# Altium footprint library nrf51x22_qfax.PcbLib: 7 footprints
Each footprint in its own frame and in the unit in brackets; x right, y up, seen from the top. Pads: shape width x height; smd on the part's side, far side on the other; paste and mask are expansions set on the pad; w line width, h text height; cw(c..) or ccw(c..) is an arc to the next point about the centre after c.
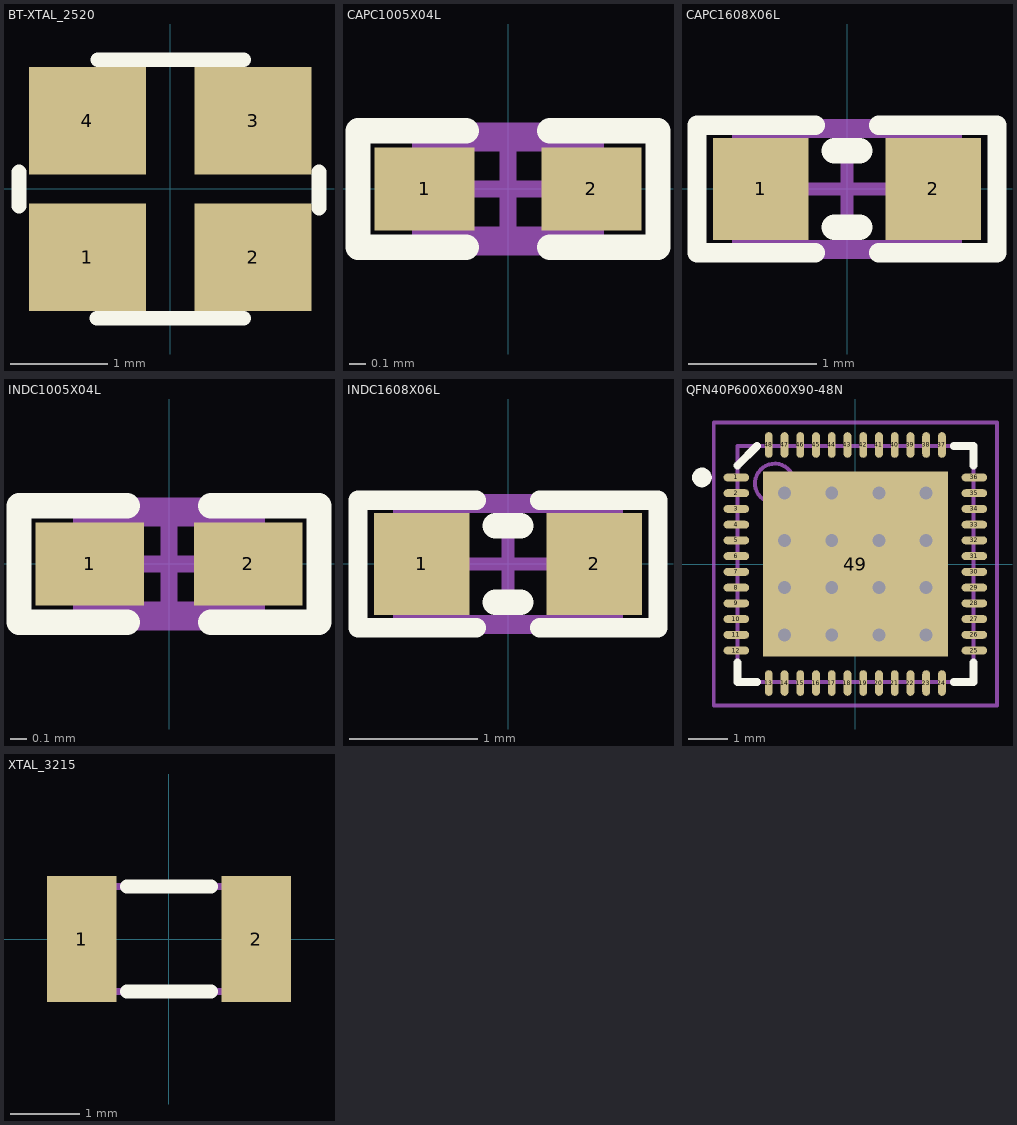
[diagram p0: the footprints below, top view; thin cyan lines are the x and y axes]

## BT-XTAL_2520 [mm]
pads (4):
  rect 1.2x1.1 smd: 1(-0.85,-0.7) 2(0.85,-0.7) 3(0.85,0.7) 4(-0.85,0.7)
Top Overlay:
  lines w0.152: -1.55,-0.175 -1.55,0.175 ; -0.75,-1.325 0.75,-1.325 ; -0.74,1.325 0.75,1.325 ; 1.525,-0.195 1.525,0.175
3D body: height 0.56, standoff 0.15, extent -1.05,-0.8 1.05,0.8
3D body: height 0.56, standoff 0, extent -1.25,-1 1.27,1

## CAPC1005X04L [mm]
pads (2):
  rect 0.6x0.5 smd: 1(-0.5,0) 2(0.5,0)
Top Overlay:
  lines w0.152: -0.25,-0.35 -0.9,-0.35 -0.9,0.35 -0.25,0.35 ; 0.25,-0.35 0.9,-0.35 0.9,0.35 0.25,0.35
Mechanical 13:
  lines w0.1: -0.525,-0.275 0.525,-0.275 0.525,0.275 -0.525,0.275 -0.525,-0.275
Mechanical 15:
  lines w0.1: -0.275,0 0.275,0 ; 0,-0.275 0,0.275 ; -0.9,-0.35 -0.9,0.35 0.9,0.35 0.9,-0.35 -0.9,-0.35
3D body: height 0.5, standoff -0.01, extent -0.508,-0.254 0.508,0.254

## CAPC1608X06L [mm]
pads (2):
  rect 0.75x0.8 smd: 1(-0.675,0) 2(0.675,0)
Top Overlay:
  lines w0.152: -0.25,-0.5 -1.175,-0.5 -1.175,0.5 -0.25,0.5 ; 0.25,-0.5 1.175,-0.5 1.175,0.5 0.25,0.5
  lines w0.2: -0.1,-0.3 0.1,-0.3 ; -0.1,0.3 0.1,0.3
Mechanical 13:
  lines w0.1: -0.85,-0.45 -0.85,0.45 0.85,0.45 0.85,-0.45 -0.85,-0.45
Mechanical 15:
  lines w0.1: -0.45,0 0.45,0 ; 0,-0.45 0,0.45 ; -1.175,-0.5 1.175,-0.5 1.175,0.5 -1.175,0.5 -1.175,-0.5
3D body: height 0.8, standoff 0, extent -0.8,-0.43 0.8,0.43

## INDC1005X04L [mm]
pads (2):
  rect 0.65x0.5 smd: 1(-0.475,0) 2(0.475,0)
Top Overlay:
  lines w0.152: -0.25,-0.35 -0.9,-0.35 -0.9,0.35 -0.25,0.35 ; 0.25,-0.35 0.9,-0.35 0.9,0.35 0.25,0.35
Mechanical 13:
  lines w0.1: -0.525,-0.275 0.525,-0.275 0.525,0.275 -0.525,0.275 -0.525,-0.275
Mechanical 15:
  lines w0.1: -0.275,0 0.275,0 ; 0,-0.275 0,0.275 ; -0.9,-0.35 0.9,-0.35 0.9,0.35 -0.9,0.35 -0.9,-0.35
3D body: height 0.5, standoff 0, extent -0.5,-0.3 0.5,0.3

## INDC1608X06L [mm]
pads (2):
  rect 0.75x0.8 smd: 1(-0.675,0) 2(0.675,0)
Top Overlay:
  lines w0.152: -0.25,-0.5 -1.175,-0.5 -1.175,0.5 -0.25,0.5 ; 0.25,-0.5 1.175,-0.5 1.175,0.5 0.25,0.5
  lines w0.2: -0.1,-0.3 0.1,-0.3 ; -0.1,0.3 0.1,0.3
Mechanical 13:
  lines w0.1: -0.85,-0.45 0.85,-0.45 0.85,0.45 -0.85,0.45 -0.85,-0.45
Mechanical 15:
  lines w0.1: -0.45,0 0.45,0 ; 0,-0.45 0,0.45 ; -1.175,-0.5 -1.175,0.5 1.175,0.5 1.175,-0.5 -1.175,-0.5
3D body: height 0.8, standoff 0, extent -0.8,-0.475 0.8,0.475

## QFN40P600X600X90-48N [mm]
pads (49):
  oval 0.65x0.2 smd: 1(-3.025,2.2) 2(-3.025,1.8) 3(-3.025,1.4) 4(-3.025,1) 5(-3.025,0.6) 6(-3.025,0.2) 7(-3.025,-0.2) 8(-3.025,-0.6) 9(-3.025,-1) 10(-3.025,-1.4) 11(-3.025,-1.8) 12(-3.025,-2.2) 25(3.025,-2.2) 26(3.025,-1.8) 27(3.025,-1.4) 28(3.025,-1) 29(3.025,-0.6) 30(3.025,-0.2) 31(3.025,0.2) 32(3.025,0.6) 33(3.025,1) 34(3.025,1.4) 35(3.025,1.8) 36(3.025,2.2)
  oval 0.2x0.65 smd: 13(-2.2,-3.025) 14(-1.8,-3.025) 15(-1.4,-3.025) 16(-1,-3.025) 17(-0.6,-3.025) 18(-0.2,-3.025) 19(0.2,-3.025) 20(0.6,-3.025) 21(1,-3.025) 22(1.4,-3.025) 23(1.8,-3.025) 24(2.2,-3.025) 37(2.2,3.025) 38(1.8,3.025) 39(1.4,3.025) 40(1,3.025) 41(0.6,3.025) 42(0.2,3.025) 43(-0.2,3.025) 44(-0.6,3.025) 45(-1,3.025) 46(-1.4,3.025) 47(-1.8,3.025) 48(-2.2,3.025)
  rect 4.7x4.7 smd: 49(0,0)
via -1.8,1.8 diameter 0.66 hole 0.33
via -0.6,1.8 diameter 0.66 hole 0.33
via 0.6,1.8 diameter 0.66 hole 0.33
via 1.8,1.8 diameter 0.66 hole 0.33
via -1.8,0.6 diameter 0.66 hole 0.33
via -0.6,0.6 diameter 0.66 hole 0.33
via 0.6,0.6 diameter 0.66 hole 0.33
via 1.8,0.6 diameter 0.66 hole 0.33
via -1.8,-0.6 diameter 0.66 hole 0.33
via -0.6,-0.6 diameter 0.66 hole 0.33
via 0.6,-0.6 diameter 0.66 hole 0.33
via 1.8,-0.6 diameter 0.66 hole 0.33
via -1.8,-1.8 diameter 0.66 hole 0.33
via -0.6,-1.8 diameter 0.66 hole 0.33
via 0.6,-1.8 diameter 0.66 hole 0.33
via 1.8,-1.8 diameter 0.66 hole 0.33
Top Overlay:
  circle w0.25: c-3.9,2.2 r0.125
  lines w0.2: -3,-2.5 -3,-3 -2.5,-3 ; -3,2.5 -2.5,3 ; 2.5,-3 3,-3 3,-2.5 ; 2.5,3 3,3 3,2.5
Mechanical 13:
  circle w0.1: c-2.05,2.05 r0.5
  lines w0.1: -3,-3 -3,3 3,3 3,-3 -3,-3
Mechanical 15:
  lines w0.1: -0.5,0 0.5,0 ; 0,-0.5 0,0.5 ; -3.6,-3.6 -3.6,3.6 3.6,3.6 3.6,-3.6 -3.6,-3.6
3D body: height 0.9, standoff 0, extent -3,-3 3,3

## XTAL_3215 [mm]
pads (2):
  rect 1x1.8 smd: 1(-1.25,0) 2(1.25,0)
Top Overlay:
  lines w0.2: -0.6,-0.75 0.6,-0.75 ; -0.6,0.75 0.6,0.75
Mechanical 3:
  lines w0.1: -1.6,-0.55 cw(c-1.6,-0.75) -1.4,-0.75 1.4,-0.75 cw(c1.6,-0.75) 1.6,-0.55 1.6,0.55 cw(c1.6,0.75) 1.4,0.75 -1.4,0.75 cw(c-1.6,0.75) -1.6,0.55 -1.6,-0.55
3D body: height 0.81, standoff 0.15, extent -1.2,-0.6 1.2,0.6
3D body: height 0.81, standoff 0, extent -1.6,-0.75 1.6,0.75